# EAGLE library part 418217170907 (library Wurth_Elektronik_Electromechanic_Switch_rev16b)
WS-RA 2.54 mm right angled compact THT Dip Switch with flat actuator, 7 Pole
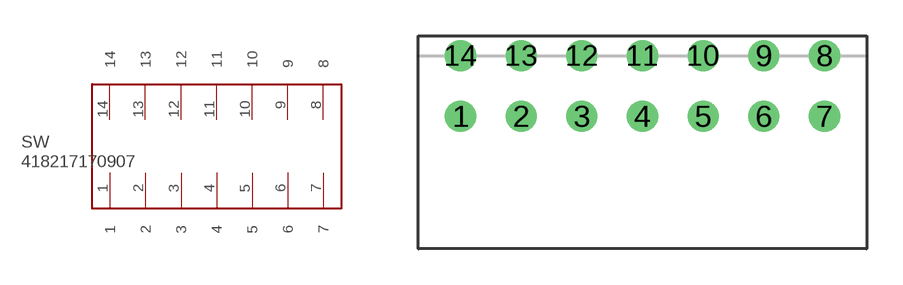
[diagram p70: symbol with the pads of 418217170907; footprint 418217170907]

Designator prefix SW

## 418217170907  [418217170907]
1  1
2  2
3  3
4  4
5  5
6  6
7  7
8  8
9  9
10  10
11  11
12  12
13  13
14  14

## Footprint 418217170907 (pad centres in mm)
WS-RA 2.54 mm right angled compact THT Dip Switch with flat actuator, 7 Pole
drill 0.8: 1 -7.62,-1.27; 2 -5.08,-1.27; 3 -2.54,-1.27; 4 0,-1.27; 5 2.54,-1.27; 6 5.08,-1.27; 7 7.62,-1.27; 8 7.62,1.27; 9 5.08,1.27; 10 2.54,1.27; 11 0,1.27; 12 -2.54,1.27; 13 -5.08,1.27; 14 -7.62,1.27